# EAGLE library part TFT01-2.2SP (library 1)
2.2’ TFT LCD: TFT01-2.2SP Serial 2.2" TFT LCD Display Module with SD Card Slot elecfreaks.com <http://www.elecfreaks.com/store/22%C3%82%E2%80%99-tft-lcd-tft0122sp-p-672.html>
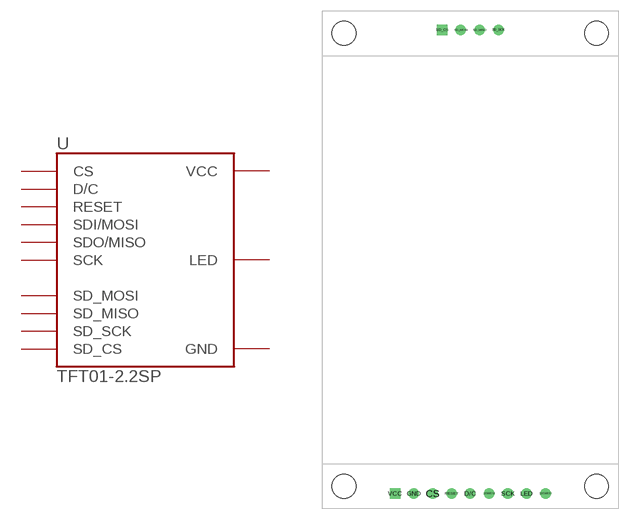
[diagram p20: symbol with the pads of TFT01-2.2SP; footprint TFT01-2.2SP]

Designator prefix U

## TFT01-2.2SP  [TFT01-2.2SP]
CS  CS
D/C  D/C
GND  GND
LED  LED
RESET  RESET
SCK  SCK
SD_CS  SD_CS
SD_MISO  SD_MISO
SD_MOSI  SD_MOSI
SD_SCK  SD_SCK
SDI/MOSI  SDI/MOSI
SDO/MISO  SDO/MISO
VCC  VCC

## Footprint TFT01-2.2SP (pad centres in mm)
2.2’ TFT LCD: TFT01-2.2SP elecfreaks.com <http://www.elecfreaks.com/store/22%C3%82%E2%80%99-tft-lcd-tft0122sp-p-672.html>
drill 0.813 pad 1.422: CS -5.08,-31.6; D/C 0,-31.6; GND -7.62,-31.6; LED 7.62,-31.6; RESET -2.54,-31.6; SCK 5.08,-31.6; SD_MISO 1.27,31.06; SD_MOSI -1.27,31.06; SD_SCK 3.81,31.06; SDI/MOSI 2.54,-31.6; SDO/MISO 10.16,-31.6
drill 0.813 pad 1.422 square: SD_CS -3.81,31.06; VCC -10.16,-31.6
hole 3.2 at -17.05,-30.6
hole 3.2 at 17.05,-30.6
hole 3.2 at 17.05,30.6
hole 3.2 at -17.05,30.6